# Altium footprint library TO-39.PcbLib: 1 footprints
Each footprint in its own frame and in the unit in brackets; x right, y up, seen from the top. Pads: shape width x height; smd on the part's side, far side on the other; paste and mask are expansions set on the pad; w line width, h text height; cw(c..) or ccw(c..) is an arc to the next point about the centre after c.
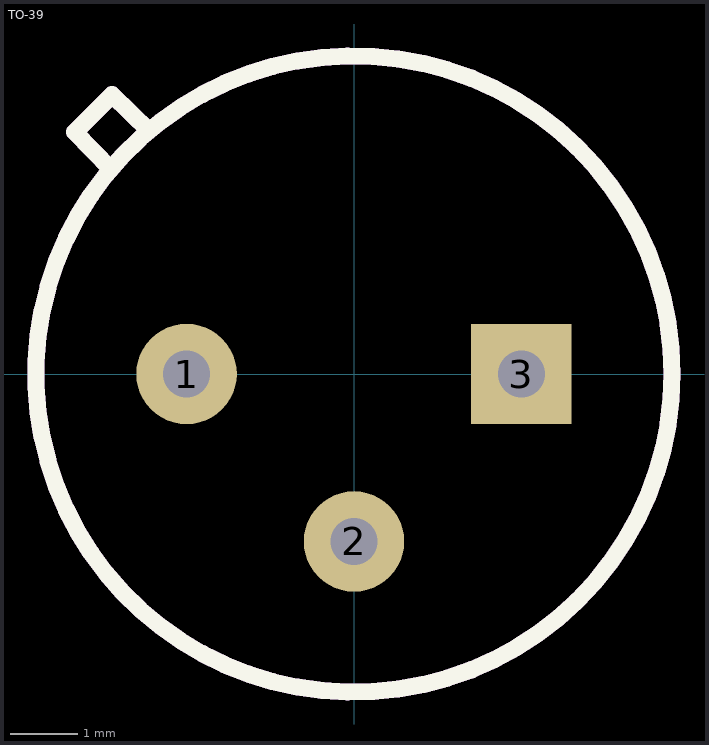
[diagram p0: the footprint, top view; thin cyan lines are the x and y axes]

## TO-39 [mm]
pads (3):
  round 1.5 hole 0.7 mask+0.051: 1(-2.5,0) 2(0,-2.5)
  rect 1.5x1.5 hole 0.7 mask+0.051: 3(2.5,0)
Top Overlay:
  circle w0.254: c0,0 r4.75
  lines w0.254: -3.63,3.06 -4.17,3.61 -3.61,4.17 -3.06,3.63
Mechanical 13:
  circle w0.254: c0,0 r4.75
  lines w0.254: -3.63,3.06 -4.17,3.61 -3.61,4.17 -3.06,3.63